# EAGLE library part ESP-12E (library esp8266)
Ai-Thinker ESP-12E
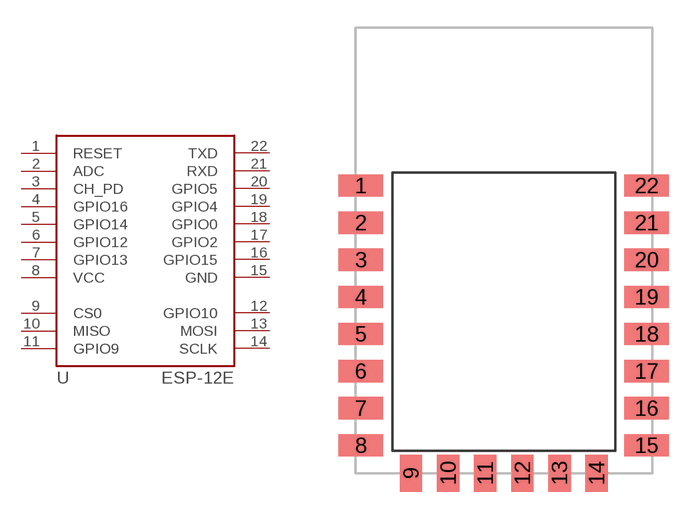
[diagram p0: symbol with the pads of ESP-12E; footprint ESP-12E]

Designator prefix U

## ESP-12E  [ESP-12E]
1  RESET  in
2  ADC  pas
3  CH_PD  in
4  GPIO16
5  GPIO14
6  GPIO12
7  GPIO13
8  VCC  pwr
9  CS0
10  MISO
11  GPIO9
12  GPIO10
13  MOSI
14  SCLK
15  GND  pwr
16  GPIO15
17  GPIO2
18  GPIO0
19  GPIO4
20  GPIO5
21  RXD
22  TXD

## Footprint ESP-12E (pad centres in mm)
smd 2.4 x 1.2: 1 -7.7,4.5; 2 -7.7,2.5; 3 -7.7,0.5; 4 -7.7,-1.5; 5 -7.7,-3.5; 6 -7.7,-5.5; 7 -7.7,-7.5; 8 -7.7,-9.5; 15 7.7,-9.5; 16 7.7,-7.5; 17 7.7,-5.5; 18 7.7,-3.5; 19 7.7,-1.5; 20 7.7,0.5; 21 7.7,2.5; 22 7.7,4.5
smd 1.2 x 2: 9 -5,-11; 10 -3,-11; 11 -1,-11; 12 1,-11; 13 3,-11; 14 5,-11